# Altium integrated library diode.IntLib: 104 symbols
Pins are listed as number, name and electrical type; pins without a type are passive.

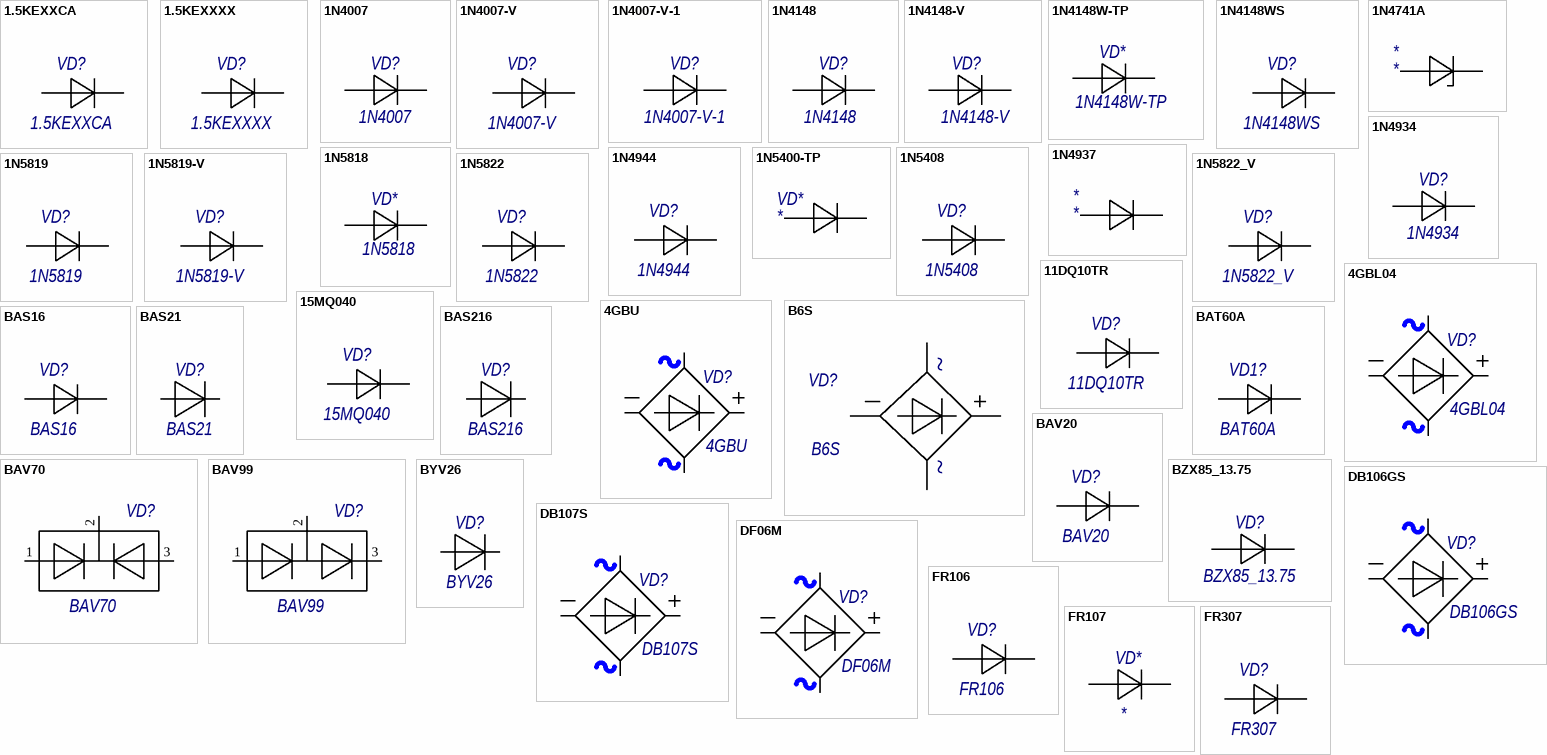
[diagram p0: symbols 1.5KEXXCA to FR307]

## 1.5KEXXCA
designator VD?
Value: {Value}
footprint DO-201AD_SP
pins: 1 A, 2 K

## 1.5KEXXXX
designator VD?
Value: {Value}
footprint DO-201AD_1.5KE
pins: 1 A, 2 K

## 1N4007
designator VD?
Value: {Value}
footprint DO-41
pins: 1 A, 2 K

## 1N4007-V
designator VD?
Value: {Value}
footprint DO-41-V_1N4007-V(Primary)
pins: 1 K, 2 A

## 1N4007-V-1
designator VD?
Value: {Value}
footprint DO-41-V-1_1N4007-V-1(Primary)
pins: 1 A, 2 K

## 1N4148
designator VD?
Value: {Value}
footprint DO-35
pins: 1 A, 2 K

## 1N4148-V
designator VD?
Value: {Value}
footprint DO-35-V
pins: 1 K, 2 A

## 1N4148W-TP
designator VD*
Diod
footprint SOD123FL
pins: 1 K, 2 A

## 1N4148WS
designator VD?
Value: {Value}
footprint SOD-323
pins: 1, 2

## 1N4741A
designator *
footprint DO-41-V
pins: 1 K, 2 A

## 1N4934
designator VD?
Value: {Value}
footprint DO-41
pins: 1 A, 2 K

## 1N4937
designator *
footprint DO-15-V
pins: 1 A, 2 K

## 1N4944
designator VD?
Value: {Value}
footprint DO-41
pins: 1 A, 2 K

## 1N5400-TP
designator VD*
footprint DO-201AD_V
pins: 1 A, 2 K

## 1N5408
designator VD?
Value: {Value}
footprint DO-27
pins: 1 K, 2 A

## 1N5818
designator VD*
Diod
footprint DO-15V_AB
pins: 1 K, 2 A

## 1N5819
designator VD?
Value: {Value}
footprint DO-41
pins: 1 A, 2 K

## 1N5819-V
designator VD?
Value: {Value}
footprint DO-41-V
pins: 1 A, 2 K

## 1N5822
designator VD?
Value: {Value}
footprint DO-201AD
pins: 1 A, 2 K

## 1N5822_V
designator VD?
Value: {Value}
footprint DO-201AD_V
pins: 1 A, 2 K

## 4GBL04
designator VD?
Value: *
footprint 4GBL
pins: 1 A, 2 B, 3 C, 4 D

## 4GBU
designator VD?
Value: *
footprint GBU
pins: 1 A, 2 B, 3 C, 4 D

## 11DQ10TR
designator VD?
Value: {Value}
footprint DO-41
pins: 1 A, 2 K

## 15MQ040
designator VD?
footprint D-64
pins: 1 A, 2 K

## B6S
designator VD?
Value: *
footprint B1XS
pins: 1 A, 2 B, 3 C, 4 D
text: ~

## BAS16
designator VD?
Value: {Value}
footprint SOT-23
pins: 1 A, 2 NC hidden, 3 K

## BAS21
designator VD?
Value: {Value}
footprint SOT-23
pins: 1, 2 hidden, 3

## BAS216
designator VD?
Value: {Value}
footprint SOD110
pins: 1 A, 2 K

## BAT60A
designator VD1?
Value: {Value}
footprint SOD-323
pins: 1 K, 2 A

## BAV20
designator VD?
Value: {Value}
footprint DO-35-V
pins: 1 A, 2 K

## BAV70
designator VD?
Value: *
footprint SOT-23(ANK)
pins: 1 A, 2 B, 3 K

## BAV99
designator VD?
Value: *
footprint SOT-23(ANK)
pins: 1 A, 2 B, 3 K

## BYV26
designator VD?
Value: *
footprint SOD57
pins: 1, 2

## BZX85_13.75
designator VD?
Value: {Value}
footprint DO-41L13.75
pins: 1 A, 2 K

## DB106GS
designator VD?
Value: *
footprint DB106GS
pins: 1 A, 2 B, 3 C, 4 D

## DB107S
designator VD?
Value: *
footprint DB106GS
pins: 1 A, 2 B, 3 C, 4 D

## DF06M
designator VD?
Value: *
footprint DIP
pins: 1 A, 2 B, 3 C, 4 D

## FR106
designator VD?
Value: {Value}
footprint DO-41-V
pins: 1 A, 2 K

## FR107
designator VD*
footprint DO-41-V
footprint DO-41
pins: 1 A, 2 K

## FR307
designator VD?
Value: {Value}
footprint DO-27
pins: 1 K, 2 A

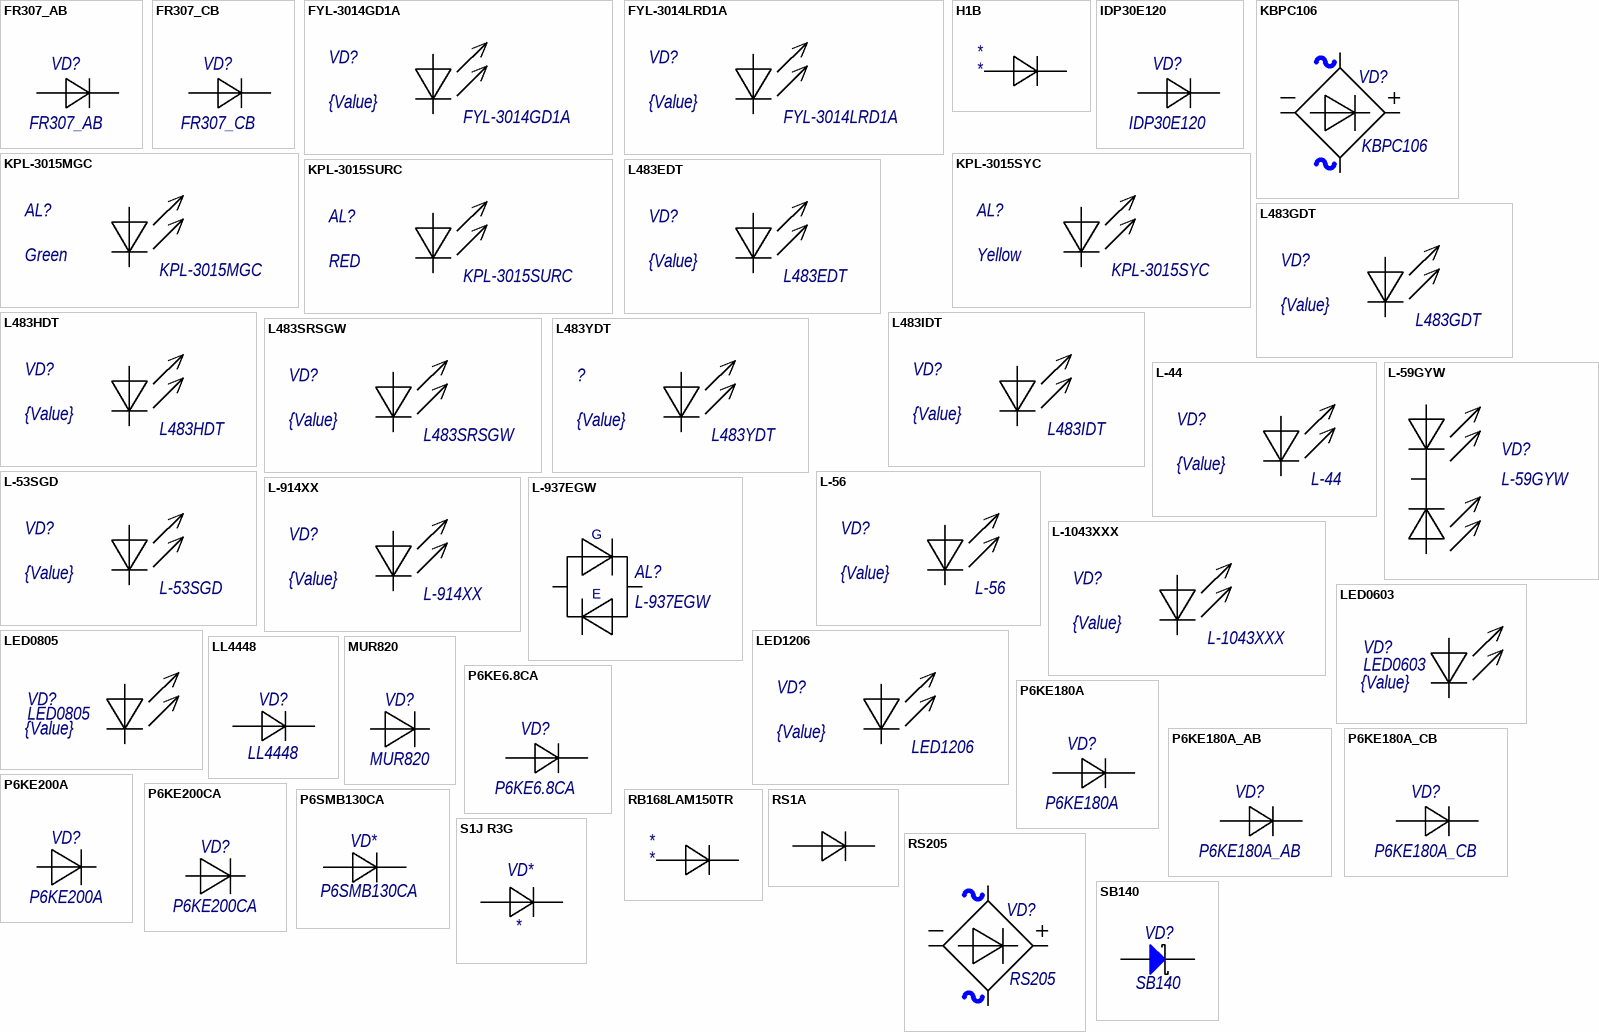
[diagram p1: symbols FR307_AB to SB140]

## FR307_AB
designator VD?
Value: {Value}
footprint DO-27_AB
pins: 1 K, 2 A

## FR307_CB
designator VD?
Value: {Value}
footprint DO-27_CB
pins: 1 K, 2 A

## FYL-3014GD1A
designator VD?  value {Value}
footprint L-44
pins: 1 A, 2 K

## FYL-3014LRD1A
designator VD?  value {Value}
footprint L-44
pins: 1 A, 2 K

## H1B
designator *
footprint SOD123FL
pins: 1 K, 2 A

## IDP30E120
designator VD?
Value: {Value}
footprint TO-220_F_PANEL_MOUNT
pins: 1 K, 2 A

## KBPC106
designator VD?
Value: *
footprint UL-94
pins: 1 A, 2 B, 3 C, 4 D

## KPL-3015MGC
designator AL?  value Green
footprint SMD1106
pins: 1 A, 2 K

## KPL-3015SURC
designator AL?  value RED
footprint SMD1106
pins: 1 A, 2 K

## KPL-3015SYC
designator AL?  value Yellow
footprint SMD1106
pins: 1 A, 2 K

## L483EDT
designator VD?  value {Value}
footprint L483
pins: 1 K, 2 A

## L483GDT
designator VD?  value {Value}
footprint L483
pins: 1 K, 2 A

## L483HDT
designator VD?  value {Value}
footprint L483
pins: 1 K, 2 A

## L483IDT
designator VD?  value {Value}
footprint L483
pins: 1 K, 2 A

## L483SRSGW
designator VD?  value {Value}
footprint L483
pins: 1 K, 2 A

## L483YDT
designator ?  value {Value}
footprint L483
pins: 1 K, 2 A

## L-44
designator VD?  value {Value}
footprint L-44
pins: 1 A, 2 K

## L-53SGD
designator VD?  value {Value}
footprint LED-5MM
pins: 1 A, 2 K

## L-56
designator VD?  value {Value}
footprint LED-5MM
pins: 1 A, 2 K

## L-59GYW
designator VD?
Value: *
footprint L-59GYW
pins: 1 G, 2, 3 Y

## L-914XX
designator VD?  value {Value}
footprint L-914XX
pins: 1 A, 2 K

## L-937EGW
designator AL?
Value: *
footprint L-937EGW
pins: 1, 2
text: G; E

## L-1043XXX
designator VD?  value {Value}
footprint L-1043XXX
pins: 1 A, 2 K

## LED0603
designator VD?  value {Value}
footprint SMD0603
pins: 1 A, 2 K

## LED0805
designator VD?  value {Value}
footprint SMD0805
pins: 1 K, 2 A

## LED1206
designator VD?  value {Value}
footprint SMD1206
pins: 1 K, 2 A

## LL4448
designator VD?
Value: {Value}
footprint DO213AA
pins: 1, 2

## MUR820
designator VD?
Value: {Value}
footprint TO-220-2_MUR820(Primary)
pins: 1 K, 3 A

## P6KE6.8CA
designator VD?
Value: {Value}
footprint DO-15-V
pins: 1 A, 2 K

## P6KE180A
designator VD?
Value: {Value}
footprint DO-15
pins: 1 A, 2 K

## P6KE180A_AB
designator VD?
Value: {Value}
footprint DO-15V_AB
pins: 1 K, 2 A

## P6KE180A_CB
designator VD?
Value: {Value}
footprint DO-15V_CB
pins: 1 A, 2 K

## P6KE200A
designator VD?
Value: {Value}
footprint DO-15
pins: 1, 2

## P6KE200CA
designator VD?
Value: {Value}
footprint P6KE200CA
pins: 1, 2

## P6SMB130CA
designator VD*
Diod
footprint SMB-J
pins: A, K

## RB168LAM150TR
designator *
footprint SOD128
pins: 1 A, 2 K

## RS1A
designator VD*  (value not drawn)
footprint SMA
pins: 1 K, 2 A

## RS205
designator VD?
Value: *
footprint RS2
pins: 1 A, 2 B, 3 C, 4 D

## S1J R3G
designator VD*
footprint DO-214AC(SMA)
pins: 1 A, 2 K

## SB140
designator VD?
ComponentLink1DescBC: Manufacturer Link; Published: 8-Jun-2000; LatestRevisionDate: 17-Jul-2002; LatestRevisionNote: Re-released for DXP Platform.; DatasheetDocument: Feb-1992; PackageReference: D-64; Publisher: Altium Limited; ComponentLink1URL: http://www.irf.com/; Value: *
simulation model 15MQ040
footprint DO-15-V
pins: 1 A, 2 K

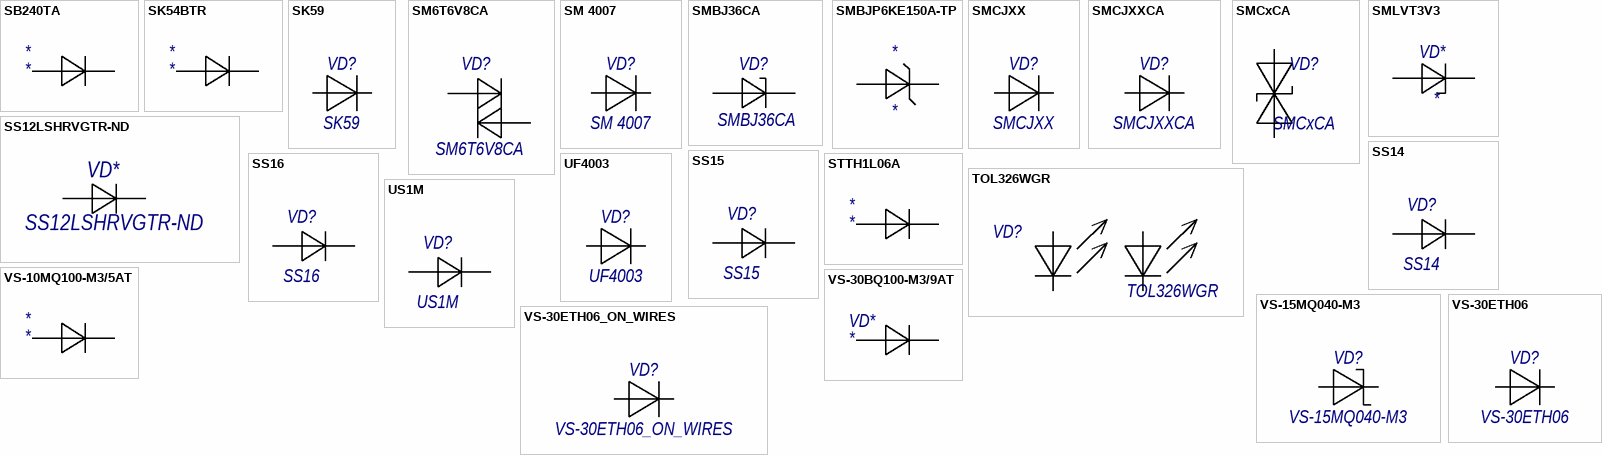
[diagram p2: symbols SB240TA to VS-30ETH06_ON_WIRES]

## SB240TA
designator *
footprint DO-15V_AB
pins: 1 A, 2 K

## SK54BTR
designator *
footprint SMB
pins: 1 A, 2 K

## SK59
designator VD?
Value: {Value}
footprint DO-214
pins: 1 A, 2 K

## SM6T6V8CA
designator VD?
Value: *
footprint SMB
pins: 1, 2

## SM 4007
designator VD?
Value: {Value}
footprint DO-213
pins: 1, 2

## SMBJ36CA
designator VD?
Value: *
footprint SMB
pins: 1 K, 2 A

## SMBJP6KE150A-TP
designator *
footprint SMB
pins: 1 A, 2 K

## SMCJXX
designator VD?
Value: {Value}
footprint SMC
pins: 1, 2

## SMCJXXCA
designator VD?
Value: {Value}
footprint SMC
pins: 1, 2

## SMCxCA
designator VD?
Datasheet: http://www.bourns.com/docs/Product-Datasheets/SMCJ.pdf
footprint SMC
pins: 1, 2

## SMLVT3V3
designator VD*
footprint SMB
pins: 1 K, 2 A

## SS12LSHRVGTR-ND
designator VD*
Diod
footprint SOD-123HE
pins: 1 A, 2 K

## SS14
designator VD?
Value: {Value}
footprint D-64
pins: 1 A, 2 K

## SS15
designator VD?
Value: {Value}
footprint DO-214AC(SMA)
pins: 1 K, 2 A

## SS16
designator VD?
Value: {Value}
footprint D-64
pins: 1 A, 2 K

## STTH1L06A
designator *
footprint SMA
pins: 1 A, 2 K

## TOL326WGR
designator VD?
Value: *
footprint TOL326WGR
pins: 1 K, 2 A, 3 A, 4 K

## UF4003
designator VD?
Value: {Value}
footprint DO-41
pins: 1, 2

## US1M
designator VD?
Value: {Value}
footprint DO-214AC(SMA)
pins: 1 K, 2 A

## VS-10MQ100-M3/5AT
designator *
footprint DO-214AC(SMA)
pins: 1 A, 2 K

## VS-15MQ040-M3
designator VD?
Value: {Value}
footprint DO-214AC(SMA)
pins: 1, 2

## VS-30BQ100-M3/9AT
designator VD*
footprint SMC
pins: 1 A, 2 K

## VS-30ETH06
designator VD?
Value: {Value}
footprint TO-220-2
pins: 1 K, 2 A

## VS-30ETH06_ON_WIRES
designator VD?
Value: {Value}
footprint TO-220-ON_WIRES_VS-30ETH06_ON_WIRES(Primary)
pins: 1 K, 3 A